# Altium schematic symbol library IC_DEBOUNCE_8IN8OUT_SMD.SchLib: 1 symbol
Pins are listed as number, name and electrical type; pins without a type are passive.

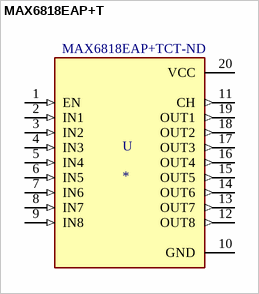
[diagram p0: symbol MAX6818EAP+T]

## MAX6818EAP+T
designator U  Supplier Part Number 1: MAX6818EAP+TCT-ND
Switch Interfacing Interface 20-SSOP; MP: MAX6818EAP+T; MF: Maxim Integrated; Package: SSOP-20 Maxim; Availability: Unavailable; Value: *; Price: None; SnapEDA_Link: https://www.snapeda.com/parts/MAX6818EAP+T/Maxim%20Integrated/view-part/584081/?ref=snap; Supplier 1: Digi-Key
footprint IC_DEBOUNCE_8IN8OUT_SMD
pins: 1 EN (in), 2 IN1 (in), 3 IN2 (in), 4 IN3 (in), 5 IN4 (in), 6 IN5 (in), 7 IN6 (in), 8 IN7 (in), 9 IN8 (in), 10 GND (power), 11 CH (out), 12 OUT8 (out), 13 OUT7 (out), 14 OUT6 (out), 15 OUT5 (out), 16 OUT4 (out), 17 OUT3 (out), 18 OUT2 (out), 19 OUT1 (out), 20 VCC (power)